# Altium schematic symbol library Capacitors.SchLib: 50 symbols
Pins are listed as number, name and electrical type; pins without a type are passive.

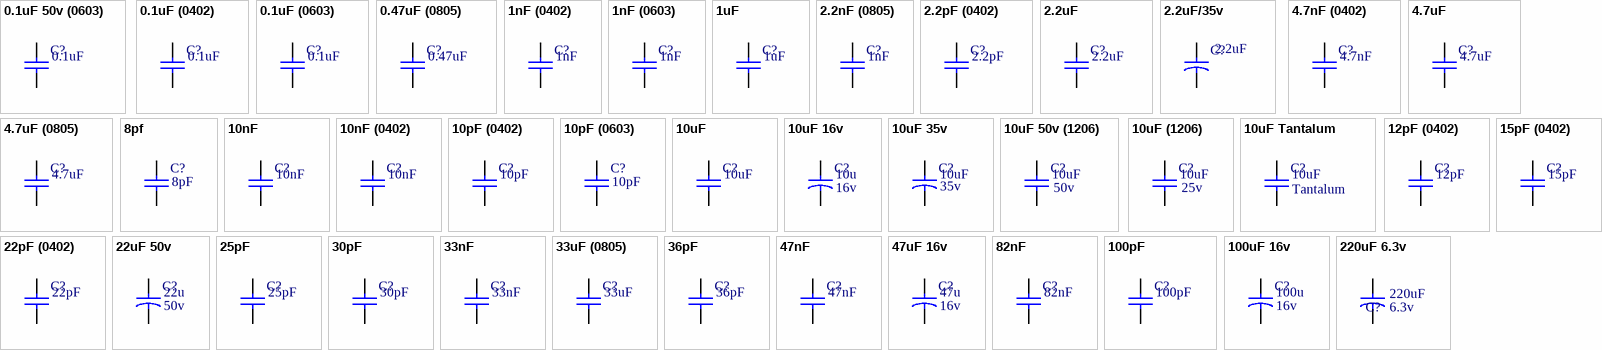
[diagram p0: symbols 0.1uF 50v (0603) to 220uF 6.3v]

## 0.1uF 50v (0603)
designator C?, comment 0.1uF
MFG_PN: VJ0603V104ZXAPW1BC; MFG: Vishay; Voltage: 50v; LOAD: NL; Value: 0.1uF
footprint CAP0603W (capacitor 0603 wave soldering)
footprint CAP0603R (capacitor 0603 reflow soldering)
pins: 1, 2

## 0.1uF (0402)
designator C?, comment 0.1uF
Tolerance: 20%; MFG_PN: VJ0402G104MXQCW1BC; MFG: Vishay; Voltage: 10v; LOAD: NL; Value: 0.1uF
footprint CAP0402R (Capacitor 0402 reflow soldering)
pins: 1, 2

## 0.1uF (0603)
designator C?, comment 0.1uF
MFG_PN: VJ0603Y104JXJPW1BC; MFG: Vishay; LOAD: NL; Value: 0.1uF
footprint CAP0603W (capacitor 0603 wave soldering)
footprint CAP0603R (capacitor 0603 reflow soldering)
pins: 1, 2

## 0.47uF (0805)
designator C?, comment 0.47uF
MFG_PN: VJ0805V474MXXCW1BC; MFG: Vishay; Voltage: 25v; LOAD: NL; Value: 0.47uF
footprint CAP0805R (capacitor 0805 reflow soldering)
footprint CAP0805W (capacitor 0805 wave soldering)
pins: 1, 2

## 1nF (0402)
designator C?, comment 1nF
Tolerance: 10%; MFG_PN: VJ0402Y102KXAAC; MFG: Vishay; Voltage: 50v; LOAD: NL; Value: 1nF
footprint CAP0402R (Capacitor 0402 reflow soldering)
pins: 1, 2

## 1nF (0603)
designator C?, comment 1nF
MFG_PN: VJ0603Y102KXBAC31; MFG: Vishay; LOAD: NL; Value: 1nF
footprint CAP0603W (capacitor 0603 wave soldering)
footprint CAP0603R (capacitor 0603 reflow soldering)
pins: 1, 2

## 1uF
designator C?
MFG_PN: VJ0805V105ZXXTW1BC; MFG: Vishay; Voltage: 25v; LOAD: NL; Value: 1uF
footprint CAP0603W (capacitor 0603 wave soldering)
footprint CAP0603R (capacitor 0603 reflow soldering)
pins: 1, 2

## 2.2nF (0805)
designator C?, comment 1nF
Tolerance: 10%; MFG_PN: VJ0805A222KXXPW1BC; MFG: Vishay; Voltage: 25v; LOAD: NL; Value: 1nF
footprint CAP0805R (capacitor 0805 reflow soldering)
footprint CAP0805W (capacitor 0805 wave soldering)
pins: 1, 2

## 2.2pF (0402)
designator C?, comment 2.2pF
Tolerance: 10%; MFG_PN: VJ0402A2R2DXXCW1BC; MFG: Vishay; Voltage: 25v; LOAD: NL; Value: 2.2pF
footprint CAP0402R (Capacitor 0402 reflow soldering)
pins: 1, 2

## 2.2uF
designator C?
MFG1_PN: VJ1206V225ZXXRW1BC; MFG1: Vishay; Value: 2.2uF
footprint CAP1206W (capacitor 1206 wave soldering)
pins: 1, 2

## 2.2uF/35v
designator C?, comment 2.2uF
Tolerance: 20%; MFG1_PN: EEE-FC1V2R2AR; MFG1: PANASONIC; Voltage: 35v; Value: 2.2uF
footprint SMD Elec Cap (5.5_5.4_4) (L=5.5mm, H=5.4mm, D=4mm)
pins: 1, 2

## 4.7nF (0402)
designator C?, comment 4.7nF
Tolerance: 10%; MFG_PN: VJ0402Y472KXACW1BC; MFG: Vishay; Voltage: 50v; LOAD: NL; Value: 4.7nF
footprint CAP0402R (Capacitor 0402 reflow soldering)
pins: 1, 2

## 4.7uF
designator C?
MFG1_PN: VJ1206V475ZXJTW1BC; MFG1: Vishay; Voltage: 16v; Value: 4.7uF
footprint CAP1206W (capacitor 1206 wave soldering)
pins: 1, 2

## 4.7uF (0805)
designator C?, comment 4.7uF
MFG_PN: VJ0805V475MXQTW1BC; MFG: Vishay; Voltage: 10v; LOAD: NL; Value: 4.7uF
footprint CAP0805R (capacitor 0805 reflow soldering)
footprint CAP0805W (capacitor 0805 wave soldering)
pins: 1, 2

## 8pf
designator C?, comment 8pF
MFG1_PN: 06031A8R0CAT2A; MFG1: AVX; Value: 8pF
footprint CAP0603W (capacitor 0603 wave soldering)
pins: 1, 2

## 10nF
designator C?
MFG1_PN: VJ0603Y103KXAAC; MFG1: Vishay; Value: 10nF
footprint CAP0603W (capacitor 0603 wave soldering)
footprint CAP0805R (capacitor 0805 reflow soldering)
pins: 1, 2

## 10nF (0402)
designator C?, comment 10nF
Tolerance: 5%; MFG_PN: VJ0402Y103JXXAC; MFG: Vishay; Voltage: 25v; LOAD: NL; Value: 10nF
footprint CAP0402R (Capacitor 0402 reflow soldering)
pins: 1, 2

## 10pF (0402)
designator C?, comment 10pF
Tolerance: 5%; MFG_PN: VJ0402A100JXACW1BC; MFG: Vishay; Voltage: 50v; LOAD: NL; Value: 10pF
footprint CAP0402R (Capacitor 0402 reflow soldering)
pins: 1, 2

## 10pF (0603)
designator C?, comment 10pF
Tolerance: 1%; MFG_PN: VJ0603A100FXACW1BC; MFG: VISHAY; Voltage: 50v; LOAD: NL; Value: 10pF
footprint CAP0603W (capacitor 0603 wave soldering)
footprint CAP0603R (capacitor 0603 reflow soldering)
pins: 1, 2

## 10uF
designator C?
MFG1_PN: VJ1206V106ZXQTW1BC; MFG1: Vishay; Value: 10uF
footprint CAP1206R (capacitor 1206 reflow soldering)
pins: 1, 2

## 10uF 16v
designator C?, comment Voltage: 16v  (hidden comment: 10u)
Tolerance: 20%; MFG_PN: EEE-FK1C100R; MFG: Panasonic; LOAD: NL; Value: 10u
footprint SMD Elec Cap (5.8_5.8_4) (L=5.8mm, H=5.8mm, D=4mm)
pins: 1, 2

## 10uF 35v
designator C?, comment Voltage: 35v  (hidden comment: 10uF)
MFG1_PN: EEE-HB1V100R; MFG1: Panasonic; Value: 10uF
footprint SMD Elec Cap (5.5_6.5_5) (L=5.5mm, H=6.5mm, D=5mm)
pins: 1, 2

## 10uF 50v (1206)
designator C?, comment Voltage: 50v  (hidden comment: 10uF)
Tolerance: 10%; MFG_PN: C3216X5R1H106K160AB; MFG: TDK; LOAD: NL; Value: 10uF
footprint CAP1206R (capacitor 1206 reflow soldering)
footprint CAP1206W (capacitor 1206 wave soldering)
pins: 1, 2

## 10uF (1206)
designator C?, comment Voltage: 25v  (hidden comment: 10uF)
Tolerance: 10%; MFG_PN: GRJ31CR71E106KE11L; MFG: MURATA; LOAD: NL; Value: 10uF
footprint CAP1206R (capacitor 1206 reflow soldering)
footprint CAP1206W (capacitor 1206 wave soldering)
pins: 1, 2

## 10uF Tantalum
designator C?, comment Type: Tantalum  (hidden comment: 10uF)
MFG1_PN: 293D106X96R3A2TE3; MFG1: Vishay; Value: 10uF
footprint CAP1206W (capacitor 1206 wave soldering)
pins: 1, 2

## 12pF (0402)
designator C?, comment 12pF
Tolerance: 5%; MFG_PN: GRM1555C1H120JA01D; MFG: Murata; Voltage: 50v; LOAD: NL; Value: 12pF
footprint CAP0402R (Capacitor 0402 reflow soldering)
pins: 1, 2

## 15pF (0402)
designator C?, comment 15pF
Tolerance: 5%; MFG_PN: VJ0402A150JXACW1BC; MFG: Vishay; Voltage: 50v; LOAD: NL; Value: 15pF
footprint CAP0402R (Capacitor 0402 reflow soldering)
pins: 1, 2

## 22pF (0402)
designator C?, comment 22pF
Tolerance: 5%; MFG_PN: 04025A220JAT2A; MFG: AVX; Voltage: 50v; LOAD: NL; Value: 22pF
footprint CAP0402R (Capacitor 0402 reflow soldering)
pins: 1, 2

## 22uF 50v
designator C?, comment Voltage: 50v  (hidden comment: 22u)
MFG1_PN: EEE-FK1H220P; MFG1: Panasonic; Value: 22u
footprint SMD Elec Cap (5.8_5.8_6.3) (L=5.8mm, H=5.8mm, D=6.3mm)
pins: 1, 2

## 25pF
designator C?
Tolerance: 2%; MFG_PN: 06035A250GAT2A; MFG: AVX; Voltage: 50v; LOAD: NL; Value: 25pF
footprint CAP0603W (capacitor 0603 wave soldering)
footprint CAP0603R (capacitor 0603 reflow soldering)
pins: 1, 2

## 30pF
designator C?
MFG1_PN: VJ0805A300JXBAT; MFG1: Vishay; Value: 30pF
footprint CAP0603W (capacitor 0603 wave soldering)
pins: 1, 2

## 33nF
designator C?
Tolerance: 5%; MFG1_PN: VJ0603Y333KXACW1BC; MFG1: Vishay; Voltage: 50v; Value: 33nF
footprint CAP0603W (capacitor 0603 wave soldering)
pins: 1, 2

## 33uF (0805)
designator C?, comment 33uF
MFG_PN: C2012X5R1A336M125AC; MFG: TDK; Voltage: 10v; LOAD: NL; Value: 33uF
footprint CAP0805R (capacitor 0805 reflow soldering)
footprint CAP0805W (capacitor 0805 wave soldering)
pins: 1, 2

## 36pF
designator C?
Tolerance: 2%; MFG_PN: GRM0335C1H360GA01D; MFG: MURATA; Voltage: 50v; LOAD: NL; Value: 36pF
footprint CAP0603W (capacitor 0603 wave soldering)
footprint CAP0603R (capacitor 0603 reflow soldering)
pins: 1, 2

## 47nF
designator C?
MFG_PN: VJ0603Y473JXQPW1BC; MFG: Vishay; Voltage: 10v; LOAD: NL; Value: 47nF
footprint CAP0603W (capacitor 0603 wave soldering)
footprint CAP0603R (capacitor 0603 reflow soldering)
pins: 1, 2

## 47uF 16v
designator C?, comment Voltage: 16v  (hidden comment: 47u)
MFG1_PN: EEE-FK1C470P; MFG1: Panasonic; Value: 47u
footprint SMD Elec Cap (5.8_5.8_6.3) (L=5.8mm, H=5.8mm, D=6.3mm)
pins: 1, 2

## 82nF
designator C?
Tolerance: 5%; MFG1_PN: VJ0805Y823JXXPW1BC; MFG1: Vishay; Voltage: 25v; Value: 82nF
footprint CAP0603W (capacitor 0603 wave soldering)
pins: 1, 2

## 100pF
designator C?
MFG1_PN: VJ0603A101JNAAO; MFG1: Vishay; Voltage: 50v; Value: 100pF
footprint CAP0603W (capacitor 0603 wave soldering)
pins: 1, 2

## 100uF 16v
designator C?, comment Voltage: 16v  (hidden comment: 100u)
MFG1_PN: EEE-1CA101WP; MFG1: Panasonic; Value: 100u
footprint SMD Elec Cap (5.5_5.4_6.3) (L=5.5mm, H=5.4mm, D=6.3mm)
pins: 1, 2

## 220uF 6.3v
designator C?, comment value 220uF  Voltage: 6.3v  (hidden comment: EEE-0JA221WP)
MFG: Panasonic; MFG_PN: EEE-0JA221WP
footprint SMD Elec Cap (5.5_5.4_6.3) (L=5.5mm, H=5.4mm, D=6.3mm)
pins: 1, 2

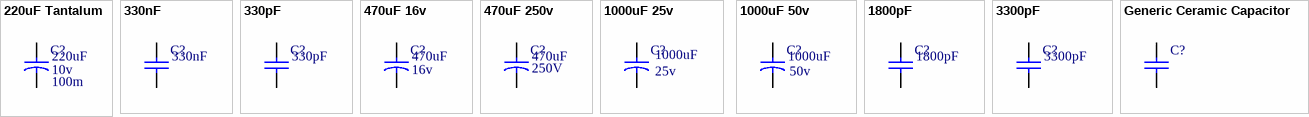
[diagram p1: symbols 220uF Tantalum to Generic Ceramic Capacitor]

## 220uF Tantalum
designator C?, comment Voltage: 10v  ESR: 100m  (hidden comment: 220uF)
Tolerance: 20%; MFG_PN: TR3D227M010C0100; MFG: VISHAY; LOAD: NL; Value: 220uF
footprint D-CASE Tantalum
pins: 1, 2

## 330nF
designator C?
MFG1_PN: VJ0805V334ZXAPW1BC; MFG1: Vishay; Voltage: 50v; Value: 330nF
footprint CAP0805W (capacitor 0805 wave soldering)
pins: 1, 2

## 330pF
designator C?
Tolerance: 5%; MFG1_PN: VJ0805A331JXACW1BC; MFG1: Vishay; Voltage: 50v; Value: 330pF
footprint CAP0805W (capacitor 0805 wave soldering)
pins: 1, 2

## 470uF 16v
designator C?, comment Voltage: 16v  (hidden comment: 470uF)
Tolerance: 20%; MFG_PN: EEE-FP1C471AP; MFG: Panasonic; LOAD: NL; Value: 470uF
footprint SMD Elec Cap (10.5_10.2_8) (L=10.5mm, H=10.2mm, D=8mm)
pins: 1, 2

## 470uF 250v
designator C?, comment Voltage: 250V  (hidden comment: 470uF)
MFG1_PN: LLS2E471MELB; MFG1: Nichicon; Value: 470uF
footprint Elec. Cap. TH (THrough-hole (D=30mm, L=25mm, LS=10mm))
pins: 1, 2

## 1000uF 25v
designator C?, comment Voltage: 25v  (hidden comment: 1000uF)
Tolerance: 20%; MFG1_PN: EEV-FK1E102Q; MFG1: PANASONIC; Value: 1000uF
footprint SMD Elec Cap (13.5_15_12.5) (L=13.5mm, H=15mm, D=12.5mm)
pins: 1, 2

## 1000uF 50v
designator C?, comment Voltage: 50v  (hidden comment: 1000uF)
MFG1_PN: EEV-FK1H102M; MFG1: Panasonic; Value: 1000uF
footprint SMD Elec Cap (17_16.5_16) (L=17mm, H=16.5mm, D=16mm)
pins: 1, 2

## 1800pF
designator C?
Tolerance: 5%; MFG1_PN: VJ0603Y182JXAAC; MFG1: Vishay; Voltage: 50v; Value: 1800pF
footprint CAP0603W (capacitor 0603 wave soldering)
pins: 1, 2

## 3300pF
designator C?
Tolerance: 20%; MFG1_PN: VJ0603Y332MXAPW1BC; MFG1: Vishay; Voltage: 50; Value: 3300pF
footprint CAP0603W (capacitor 0603 wave soldering)
pins: 1, 2

## Generic Ceramic Capacitor
designator C?
MFG1: Vishay; LOAD: NL
pins: 1, 2